# Altium schematic symbol library IC.  Optopairs.SchLib: 1 symbol
Pins are listed as number, name and electrical type; pins without a type are passive.

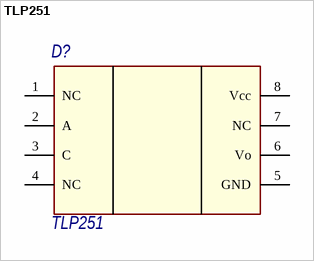
[diagram p0: symbol TLP251]

## TLP251
designator D?
footprint 8-SDIP
pins: 1 NC, 2 A, 3 C, 4 NC, 5 GND, 6 Vo, 7 NC, 8 Vcc